# EAGLE library part FS312F-G (library Fortune)
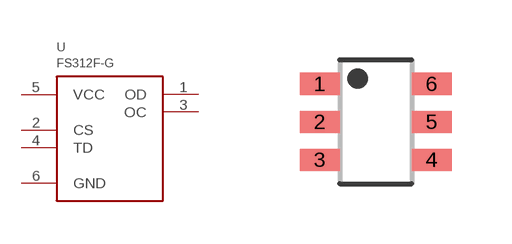
[diagram p0: symbol with the pads of SOT23-6; footprint SOT23-6]

Designator prefix U

## FS312F-G  [SOT23-6]
1  OD
2  CS
3  OC
4  TD
5  VCC
6  GND

## Footprint SOT23-6 (pad centres in mm)
smd 1 x 0.55: 1 -1.4,0.95; 2 -1.4,0; 3 -1.4,-0.95; 4 1.4,-0.95; 5 1.4,0; 6 1.4,0.95